# Altium schematic symbol library CONNs.SchLib: 9 symbols
Pins are listed as number, name and electrical type; pins without a type are passive.

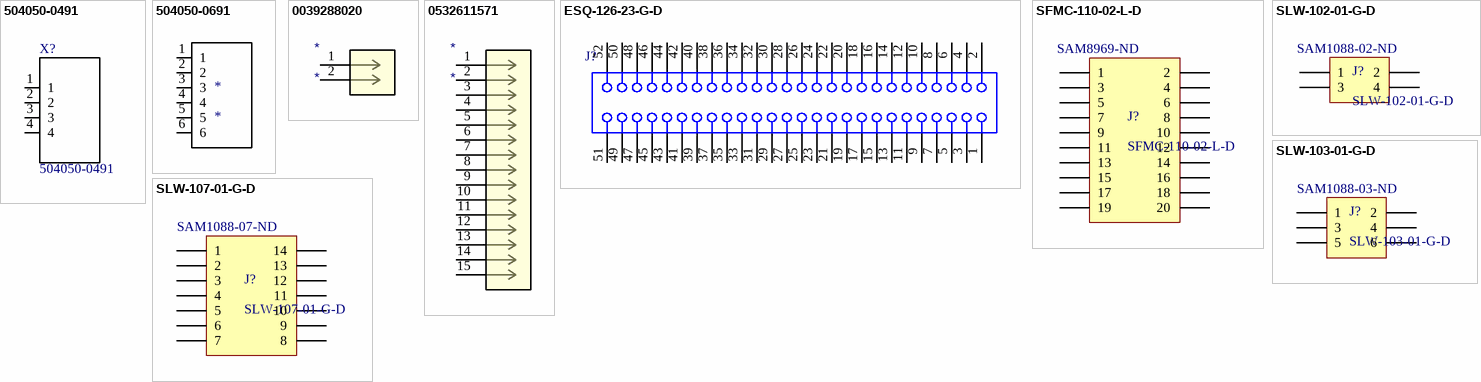
[diagram p0: symbols 504050-0491 to SLW-107-01-G-D]

## 504050-0491
designator X?
Wire-To-Board Connector, Pico-Lock 504050 Series, Surface Mount, Header, 4, 1.5 mm; MF: Molex; Price: None; Package: None; Availability: Unavailable; MP: 504050-0491; SnapEDA_Link: https://www.snapeda.com/parts/504050-0491/Molex/view-part/?ref=snap; Value: *
footprint MOLEX_504050-0491
pins: 1, 2, 3, 4

## 504050-0691
designator *
Wire-To-Board Connector, Pico-Lock 504050 Series, Surface Mount, Header, 6, 1.5 mm
footprint MOLEX_504050-0691 (Molex connector to antenna)
pins: 1, 2, 3, 4, 5, 6

## 0039288020
designator *
Mini-Fit Jr. vertical header, 2 positions
footprint 0039288020
pins: 1 + (power) "GND", 2 - (power)

## 0532611571
designator *
Picoblade 1.25 mm wire-to-board connector, 15 circuits
footprint WM7632CT-ND (Molex PicoBlade 53261 15 Pos)
pins: 1 "GND", 2, 3, 4, 5, 6, 7, 8, 9, 10, 11, 12, 13, 14, 15

## ESQ-126-23-G-D
designator J?
PC/104(TM) Elevated Socket Strip, Through-hole, Vertical, -55 to 125 degC, 2.54 mm Pitch, 52-Pin, Female, RoHS; Manufacturer: Samtec; PartNumber: ESQ-126-23-G-D; Pitch: 2.54 mm; DatasheetVersion: F-214; PackageVersion: BZ, 9/1998; PackageReference: ESQ-126-23-X-D; PackageDescription: ESQ Strip ASM; Supplier 1: Newark; Supplier Part Number 1: 92P1348; Orientation: Vertical; RoHS: True; Temperature Range: -55 to 125 degC; Mounting Technology: Through-hole; ComponentLink1Description: Manufacturer URL; ComponentLink1URL: http://www.samtec.com; ComponentLink2Description: Datasheet; ComponentLink2URL: http://www.samtec.com/documents/webfiles/pdf/ESQ_TH.PDF; ComponentLink3Description: Package Specification; ComponentLink3URL: http://www.samtec.com/documents/webfiles/cpdf/ESQ-1XX-XX-X-X-XXX-XX-X-XX-MKT.pdf
footprint SSW-126-01-G-D (Elevated Socket, 2x26 Pins, Vertical, 2.54mm Pitch, Female)
pins: 1, 2, 3, 4, 5, 6, 7, 8, 9, 10, 11, 12, 13, 14, 15, 16, 17, 18, 19, 20, 21, 22, 23, 24, 25, 26, 27, 28, 29, 30, 31, 32, 33, 34, 35, 36, 37, 38, 39, 40, 41, 42, 43, 44, 45, 46, 47, 48, 49, 50, 51, 52

## SFMC-110-02-L-D
designator J?  Supplier Part Number 1: SAM8969-ND
20 pos 50mil pitch low profile SMD connector; Supplier 1: Digi-Key
footprint SFMC-110-02-L-D (CONN RCPT 20POS 0.05 GOLD SMD)
pins: 1, 2, 3, 4, 5, 6, 7, 8, 9, 10, 11, 12, 13, 14, 15, 16, 17, 18, 19, 20

## SLW-102-01-G-D
designator J?  Supplier Part Number 1: SAM1088-02-ND
4 pos 100mil pitch low profile header; Supplier 1: Digi-Key
footprint SLW-102-01-X-D (CONN RCPT 4POS 0.1 GOLD PCB)
pins: 1, 2, 3, 4

## SLW-103-01-G-D
designator J?  Supplier Part Number 1: SAM1088-03-ND
6 pos 100mil pitch low profile header; Supplier 1: Digi-Key
footprint SLW-103-01-X-D (CONN RCPT 6POS 0.1 GOLD PCB)
pins: 1, 2, 3, 4, 5, 6

## SLW-107-01-G-D
designator J?  Supplier Part Number 1: SAM1088-07-ND
14 pos 100 mil pitch low profile header; Supplier 1: Digi-Key
footprint SLW-107-01-X-D
pins: 1, 2 14, 3 2, 4 13, 5 3, 6 12, 7 4, 8 11, 9 5, 10, 11 6, 12 9, 13 7, 14 8